# EAGLE library part LXES2SBAA4-016 (library robotter_ic)
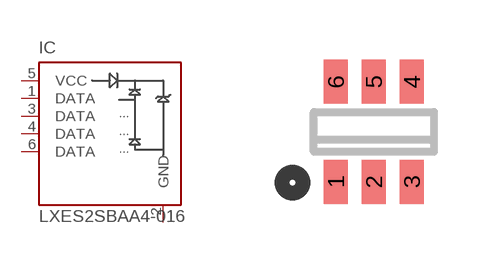
[diagram p13: symbol with the pads of LXES2BAA4; footprint LXES2BAA4]

Designator prefix IC

## LXES2SBAA4-016 (MOUSER: 81-LXES2SBAA4-016; RS: 747-4925)  [LXES2BAA4]
1  DATA
2  GND
3  DATA
4  DATA
5  VCC
6  DATA

## Footprint LXES2BAA4 (pad centres in mm)
smd 0.6 x 1.1: 1 -0.95,-1.25; 2 0,-1.25; 3 0.95,-1.25; 4 0.95,1.25; 5 0,1.25; 6 -0.95,1.25